# EAGLE library part TFR_HEADER (library BaseApp)
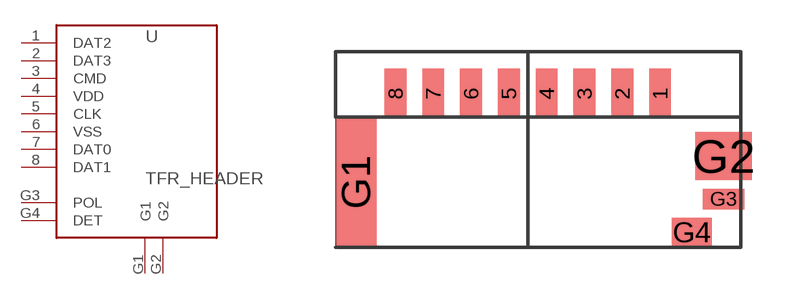
[diagram p25: symbol with the pads of TFR_HEADER; footprint TFR_HEADER]

Designator prefix -

## TFR_HEADER  [TFR_HEADER]
1  DAT2
2  DAT3
3  CMD
4  VDD
5  CLK
6  VSS
7  DAT0
8  DAT1
G1  G1
G2  G2
G3  POL
G4  DET

## Footprint TFR_HEADER (pad centres in mm)
smd 0.635 x 1.45: 1 3.85,-1.225; 2 2.75,-1.225; 3 1.65,-1.225; 4 0.55,-1.225; 5 -0.55,-1.225; 6 -1.65,-1.225; 7 -2.75,-1.225; 8 -3.85,-1.225
smd 1.2 x 3.79: G1 -5,-3.805
smd 1.65 x 1.4: G2 5.7,-3.05
smd 1.2 x 0.6: G3 5.7,-4.3
smd 1.15 x 0.85: G4 4.775,-5.275